# EAGLE library part MY_GSM_TTL_RHYDOLAB (library smylbr)
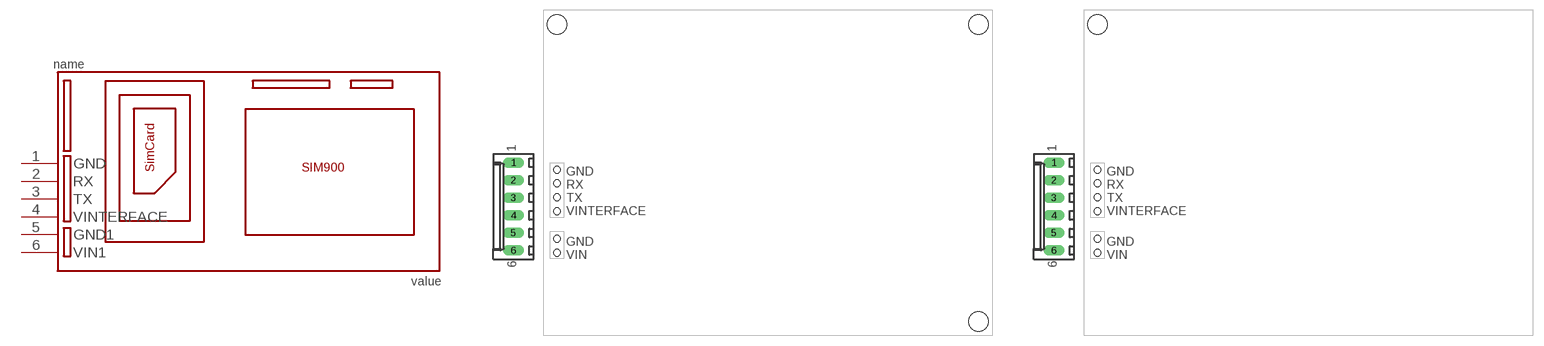
[diagram p3: symbol with the pads of GSM_TTL_RHYDOLAB; footprints GSM_TTL_RHYDOLAB, GSM_TTL_RHYDOLAB1.3_1_HOLE]

Designator prefix -

## MY_GSM_TTL_RHYDOLAB  [GSM_TTL_RHYDOLAB]
1  GND
2  RX
3  TX
4  VINTERFACE
5  GND1
6  VIN1

## MY_GSM_TTL_RHYDOLABSAN1.3  [GSM_TTL_RHYDOLAB1.3_1_HOLE]
Pads as for GSM_TTL_RHYDOLAB

## Footprint GSM_TTL_RHYDOLAB (pad centres in mm)
drill 1.016 long: 1 -36.83,3.81; 2 -36.83,1.27; 3 -36.83,-1.27; 4 -36.83,-3.81; 5 -36.83,-6.35; 6 -36.83,-8.89
hole 2.8 at 30.46,-19.19
hole 2.8 at 30.46,23.81
hole 2.8 at -30.54,23.81

## Footprint GSM_TTL_RHYDOLAB1.3_1_HOLE (pad centres in mm)
drill 1.016 long: 1 -3.81,-21.59; 2 -3.81,-24.13; 3 -3.81,-26.67; 4 -3.81,-29.21; 5 -3.81,-31.75; 6 -3.81,-34.29
hole 2.8 at 2.48,-1.59